# EAGLE library part TSU102 (library ds_ic_opa)
Nanopower (580nA) rail-to-rail I/O 5V CMOS Op-Amp
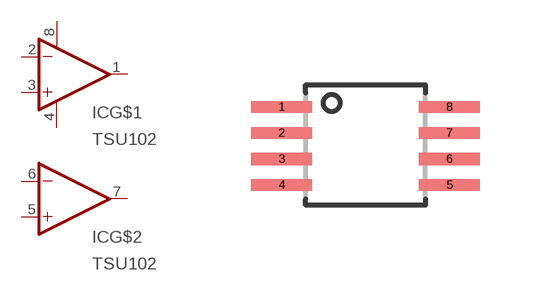
[diagram p7: symbol with the pads of SO8MINI; footprint SO8MINI]

Designator prefix IC; gates G$1=OPA_PWR G$2=OPA

## TSU102IST  [SO8MINI]
1  G$1:OUT  out
2  G$1:-IN  in
3  G$1:+IN  in
4  G$1:V-  pwr
5  G$2:+IN  in
6  G$2:-IN  in
7  G$2:OUT  out
8  G$1:V+  pwr

## Footprint SO8MINI (pad centres in mm)
smd 1.524 x 0.3: 1 -2.05,1; 2 -2.05,0.35; 3 -2.05,-0.3; 4 -2.05,-0.95; 5 2.15,-0.95; 6 2.15,-0.3; 7 2.15,0.35; 8 2.15,1